# Altium schematic symbol library Puls.SchLib: 3 symbols
Pins are listed as number, name and electrical type; pins without a type are passive.

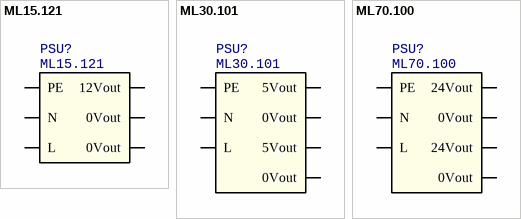
[diagram p0: symbols ML15.121 to ML70.100]

## ML15.121
designator PSU?
Power Supply, 12V, 15W; Manufacturer 1: Puls; Manufacturer Part Number 1: ML15.121
pins: 1 PE (power), 2 N (power), 3 L (power), 9 12Vout (power), 10 0Vout (power), 11 0Vout (power)

## ML30.101
designator PSU?
Power Supply, 5V, 25W; Manufacturer 1: Puls; Manufacturer Part Number 1: ML30.101
pins: 1 PE (power), 2 N (power), 3 L (power), 9 5Vout (power), 10 5Vout (power), 11 0Vout (power), 12 0Vout (power)

## ML70.100
designator PSU?
Power Supply, 24V, 72W; Manufacturer 1: Puls; Manufacturer Part Number 1: ML70.100
pins: 1 PE (power), 2 N (power), 3 L (power), 9 24Vout (power), 10 24Vout (power), 11 0Vout (power), 12 0Vout (power)